# Altium schematic symbol library Port-3wire.SchLib: 1 symbol
Pins are listed as number, name and electrical type; pins without a type are passive.

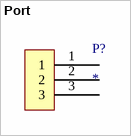
[diagram p0: symbol Port]

## Port
designator P?
3-wire port
footprint Port-3wire
pins: 1, 2, 3